# EAGLE library part MICRO-USB-RECEPTACLE (library con-molex-usb)
MICRO USB RECEPTACLES Micro-USB Receptacles, SMT, Lead-Free from MOLEX <http://www.molex.com/>. (C) 2014 Tomasz Boleslaw CEDRO, cederom@tlen.pl, http://www.tomek.cedro.info. Version 0.1 (2014-01-17): Initial release. Version 0.2 (2014-02-06): Updated 47589-0001 footprint pins/pads/milling. Following devices are included: 1. 47589-0001 Micro-USB AB Receptacle, Bottom Mount, SMT, Lead-Free <http://www.molex.com/molex/products/datasheet.jsp?part=active/0475890001_IO_CONNECTORS.xml> (Technical Drawing <http://www.molex.com/pdm_docs/sd/475890001_sd.pdf>).
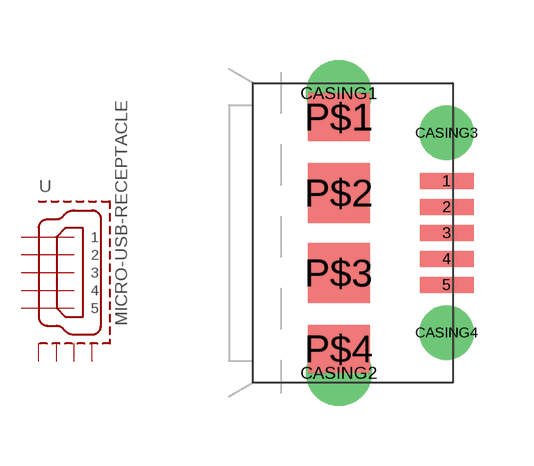
[diagram p0: symbol with the pads of 47589-0001; footprint 47589-0001]

Designator prefix -

## MICRO-USB-RECEPTACLE47589-0001  [47589-0001]
1  1  in
2  2  in
3  3  in
4  4  in
5  5  in
CASING1  GND1
CASING2  GND2
CASING3  GND3
CASING4  GND4
P$1  GND1
P$2  GND1
P$3  GND2
P$4  GND2

## Footprint 47589-0001 (pad centres in mm)
MICRO USB RECEPTACLES Micro-USB Receptacles, SMT, Lead-Free from MOLEX <http://www.molex.com/>. (C) 2014 Tomasz Boleslaw CEDRO, cederom@tlen.pl, http://www.tomek.cedro.info. Version 0.1 (2014-01-17): Initial release. Version 0.2 (2014-02-06): Updated 47589-0001 footprint pins/pads/milling. Following devices are included: 1. 47589-0001 Micro-USB AB Receptacle, Bottom Mount, SMT, Lead-Free <http://www.molex.com/molex/products/datasheet.jsp?part=active/0475890001_IO_CONNECTORS.xml> (Technical Drawing <http://www.molex.com/pdm_docs/sd/475890001_sd.pdf>).
smd 1.35 x 0.4: 1 2.7,1.3; 2 2.7,0.65; 3 2.7,0; 4 2.7,-0.65; 5 2.7,-1.3
drill 1.1 pad 1.6: CASING1 0,3.5; CASING2 0,-3.5
drill 0.85 pad 1.25: CASING3 2.7,2.5; CASING4 2.7,-2.5
smd 1.55 x 1.2: P$1 0,2.9; P$4 0,-2.9
smd 1.55 x 1.5: P$2 0,1; P$3 0,-1